# EAGLE library part EPG.0B.304.HLN (library EPG.0B.304.HLN)
4 way size 0B PCB mount socket,7A Lemo 0B Series, 4 Pole Right Angle Through Hole Connector Socket, Shell Size 0, with Female Contacts Source: Datasheet <https://web.lemo.com/img/resources/catalog/ROW/UK_English/unipole_multipole.pdf>
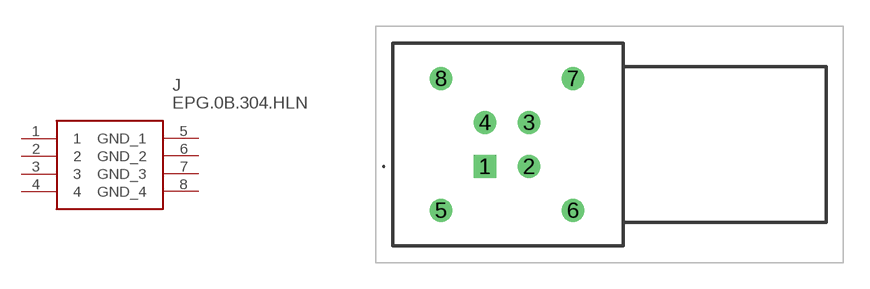
[diagram p0: symbol with the pads of EPG0B304HLN; footprint EPG0B304HLN]

Designator prefix J

## EPG.0B.304.HLN (Description: 4 way size 0B PCB mount socket,7A Lemo 0B Series, 4 Pole Right Angle Through Hole Connector Socket, Shell Size 0, with Female Contacts; Height: 12.6mm; Manufacturer_Name: LEMO; Manufacturer_Part_Number: EPG.0B.304.HLN; Mouser_Part_Number: 736-EPG0B304HLN; Mouser_Price-Stock: https://www.mouser.co.uk/ProductDetail/LEMO/EPG.0B.304.HLN?qs=Py8BJuJ8NHuk1oBwrlohFA%3D%3D)  [EPG0B304HLN]
1  1
2  2
3  3
4  4
5  GND_1
6  GND_2
7  GND_3
8  GND_4

## Footprint EPG0B304HLN (pad centres in mm)
EPG.0B.304.HLN-6
drill 0.8 pad 1.3 square: 1 0,0
drill 0.8 pad 1.3: 2 2.54,0; 3 2.54,2.54; 4 0,2.54; 5 -2.54,-2.54; 6 5.08,-2.54; 7 5.08,5.08; 8 -2.54,5.08